# EAGLE library part SAA6579-SMP (library akil)
RDS Demodulator
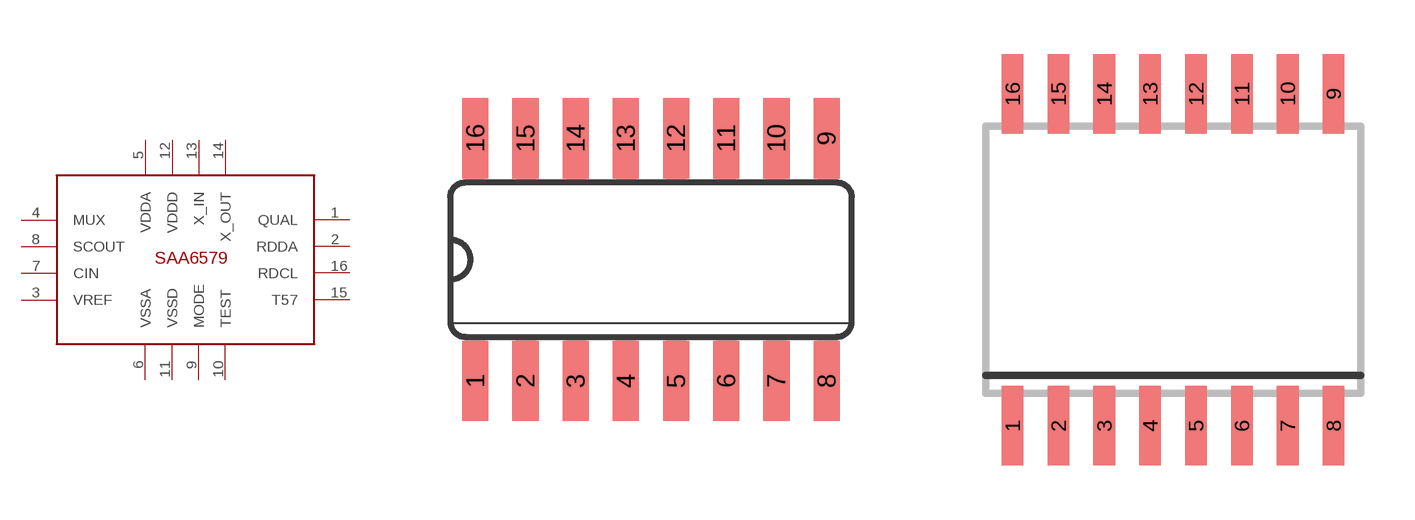
[diagram p1: symbol with the pads of S016; footprints S016, SO-16DW]

Designator prefix RDS

## SAA6579-SMPSO  [S016]
1  QUAL
2  RDDA
3  VREF
4  MUX
5  VDDA
6  VSSA
7  CIN
8  SCOUT
9  MODE
10  TEST
11  VSSD
12  VDDD
13  X_IN
14  X_OUT
15  T57
16  RDCL

## SAA6579-SMPWIDE  [SO-16DW]
Pads as for S016

## Footprint S016 (pad centres in mm)
Small Outline Package 16 PIN
smd 0.66 x 2.032: 1 -0.635,-1.803; 2 0.635,-1.803; 3 1.905,-1.803; 4 3.175,-1.803; 5 4.445,-1.803; 6 5.715,-1.803; 7 6.985,-1.803; 8 8.255,-1.803; 9 8.255,4.343; 10 6.985,4.343; 11 5.715,4.343; 12 4.445,4.343; 13 3.175,4.343; 14 1.905,4.343; 15 0.635,4.343; 16 -0.635,4.343

## Footprint SO-16DW (pad centres in mm)
Small Outline Integrated Circuit wide
smd 0.6 x 2.2: 1 -4.445,-4.6; 2 -3.175,-4.6; 3 -1.905,-4.6; 4 -0.635,-4.6; 5 0.635,-4.6; 6 1.905,-4.6; 7 3.175,-4.6; 8 4.445,-4.6; 9 4.445,4.6; 10 3.175,4.6; 11 1.905,4.6; 12 0.635,4.6; 13 -0.635,4.6; 14 -1.905,4.6; 15 -3.175,4.6; 16 -4.445,4.6